# Altium schematic symbol library ADG904BCPZ.SchLib: 1 symbol
Pins are listed as number, name and electrical type; pins without a type are passive.

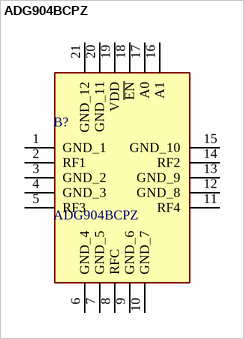
[diagram p0: symbol ADG904BCPZ]

## ADG904BCPZ
designator B?
Analog Devices ADG904BCPZ, Multiplexer Single 4:1, 20-Pin LFCSP; Geometry.Height: 0.8mm; Manufacturer_Name: Analog Devices; Manufacturer_Part_Number: ADG904BCPZ; Mouser Part Number: 584-ADG904BCPZ; Mouser Price/Stock: https://www.mouser.co.uk/ProductDetail/Analog-Devices/ADG904BCPZ?qs=BpaRKvA4VqHRSAU%252Bp4VDug%3D%3D; Arrow Part Number: ADG904BCPZ; Arrow Price/Stock: https://www.arrow.com/en/products/adg904bcpz/analog-devices?region=nac; Datasheet Link: https://mouser.componentsearchengine.com/Datasheets/2/ADG904BCPZ.pdf
footprint QFN50P400X400X80-21N-D
pins: 1 GND_1, 2 RF1, 3 GND_2, 4 GND_3, 5 RF3, 6 GND_4, 7 GND_5, 8 RFC, 9 GND_6, 10 GND_7, 11 RF4, 12 GND_8, 13 GND_9, 14 RF2, 15 GND_10, 16 A1, 17 A0, 18 ~{EN}, 19 VDD (power), 20 GND_11, 21 GND_12